# Altium schematic symbol library CYPD3177-24LQXQT.SchLib: 1 symbol
Pins are listed as number, name and electrical type; pins without a type are passive.

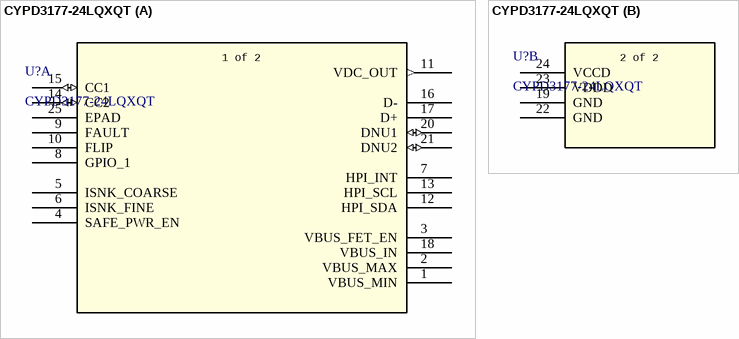
[diagram p0: symbol CYPD3177-24LQXQT]

## CYPD3177-24LQXQT
designator U?
EZ-PDâ„¢ Barrel Connector Replacement (BCR) CYPD3177-24LQXQT is the tape and reel packing type option of EZ-PDâ„¢ BCR family, the highly-integrated USB Type-C port controllers for power sink applications. It targets electronic devices using legacy barrel connectors up to 100 W or USB micro-B for power inputs, enabling product designers to replace these incompatible connectors with USB-C.EZ-PDâ„¢ BCR complies with USB Type-C and USB 3.0 Power Delivery (PD) standards and enables users to quickly convert their devices from being powered through a barrel connector to being powered via the USB-C connector with few external components and no firmware development is required. It integrates a complete USB Type-C transceiver, USB PD policy manager, a load switch controller with a soft start, all termination resistors required for a USB Type-C port, and system-level ESD protection. It is available in a 24-pin QFN package.; Manufacturer_Name: Infineon; Copyright: Copyright (C) 2026 Ultra Librarian. All rights reserved.; Manufacturer_Part_Number: CYPD3177-24LQXQT; RefDes: RefDes; Type: Type
footprint QFN24_CYPD3177-24LQXQT_INF
part A pins: 1 VBUS_MIN, 2 VBUS_MAX, 3 VBUS_FET_EN, 4 SAFE_PWR_EN, 5 ISNK_COARSE, 6 ISNK_FINE, 7 HPI_INT, 8 GPIO_1, 9 FAULT, 10 FLIP, 11 VDC_OUT (out), 12 HPI_SDA, 13 HPI_SCL, 14 CC2 (io), 15 CC1 (io), 16 D-, 17 D+, 18 VBUS_IN, 20 DNU1 (io), 21 DNU2 (io), 25 EPAD
part B pins: 19 GND (power), 22 GND (power), 23 VDDD (power), 24 VCCD (power)
part A text: 1 of 2
part B text: 2 of 2